# Altium footprint library Footprint-Lib-Pytenax.PcbLib: 7 footprints
Each footprint in its own frame and in the unit in brackets; x right, y up, seen from the top. Pads: shape width x height; smd on the part's side, far side on the other; paste and mask are expansions set on the pad; w line width, h text height; cw(c..) or ccw(c..) is an arc to the next point about the centre after c.
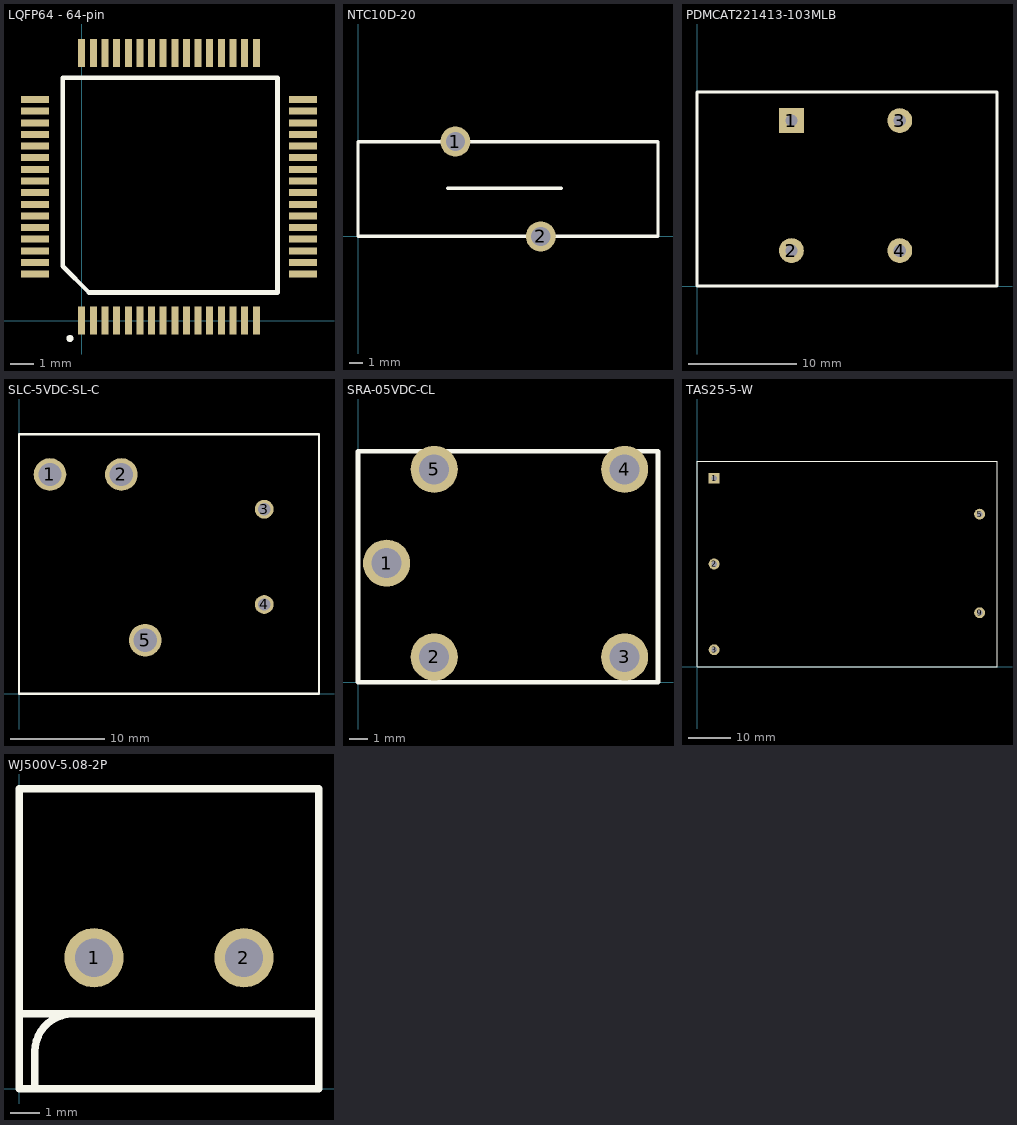
[diagram p0: the footprints below, top view; thin cyan lines are the x and y axes]

## LQFP64 - 64-pin [mm] "LQFP64 - 64-pin"
pads (64):
  rect 0.3x1.2 smd: 1(0,0) 2(0.5,0) 3(1,0) 4(1.5,0) 5(2,0) 6(2.5,0) 7(3,0) 8(3.5,0) 9(4,0) 10(4.5,0) 11(5,0) 12(5.5,0) 13(6,0) 14(6.5,0) 15(7,0) 16(7.5,0) 33(7.5,11.5) 34(7,11.5) 35(6.5,11.5) 36(6,11.5) 37(5.5,11.5) 38(5,11.5) 39(4.5,11.5) 40(4,11.5) 41(3.5,11.5) 42(3,11.5) 43(2.5,11.5) 44(2,11.5) 45(1.5,11.5) 46(1,11.5) 47(0.5,11.5) 48(0,11.5)
  rect 1.2x0.3 smd: 17(9.5,2) 18(9.5,2.5) 19(9.5,3) 20(9.5,3.5) 21(9.5,4) 22(9.5,4.5) 23(9.5,5) 24(9.5,5.5) 25(9.5,6) 26(9.5,6.5) 27(9.5,7) 28(9.5,7.5) 29(9.5,8) 30(9.5,8.5) 31(9.5,9) 32(9.5,9.5) 49(-2,9.5) 50(-2,9) 51(-2,8.5) 52(-2,8) 53(-2,7.5) 54(-2,7) 55(-2,6.5) 56(-2,6) 57(-2,5.5) 58(-2,5) 59(-2,4.5) 60(-2,4) 61(-2,3.5) 62(-2,3) 63(-2,2.5) 64(-2,2)
Top Overlay:
  circle w0.254: c-0.508,-0.762 r0.025
  lines w0.2: -0.821,2.345 -0.821,10.44 8.408,10.44 8.408,1.211 0.313,1.211 -0.821,2.345
3D body "User Library-lqpf64.STEP": height 1.5, standoff 0.02, extent -2.317,-0.285 9.683,11.715

## NTC10D-20 [mil] "NTC10D-20"
pads (2):
  round 87 hole 55: 1(282.36,275)
  round 87 hole 56: 2(530,0)
Top Overlay:
  lines w10: 260,140 590,140 ; 0,0 870,0 870,275 0,275 0,0
3D body "820422711.stp": height 452.76, standoff -1437.01, extent -32.72,41.02 872.72,248.98

## PDMCAT221413-103MLB [mil] "PDMCAT221413-103MLB"
pads (4):
  rect 90x90 hole 45: 1(343.15,601.22)
  round 90 hole 45: 2(343.15,128.78) 3(736.85,601.22) 4(736.85,128.78)
Top Overlay:
  lines w10: 0,0 1090,0 1090,705 0,705 0,0
3D body "744823210.stp": height 937.01, standoff -224.41, extent 129.96,30.35 1000.04,699.65

## SLC-5VDC-SL-C [mil] "5V 30A SPDT (1 Form C) 5 Plugin,27.6x32.2mm Power Relays ROHS"
pads (5):
  round 137 hole 98 paste+0 mask+19.68: 1(130,921)
  round 137 hole 98 mask+19.68: 2(430,921)
  round 78.75 hole 52 mask+7.87: 3(1030,775) 4(1030,375)
  round 137 hole 98 paste-99999 mask+19.68: 5(530,225)
Top Overlay:
  lines w10: 0,0 1260,0 1260,1090 0,1090 0,0
3D body: height 1102.36, standoff 47.24, extent 0,5 1260,1095

## SRA-05VDC-CL [mil] "5V 10A 20A@14VAC SPDT (1 Form C) 5 Plugin,12.4x16mm Power Relays ROHS"
pads (5):
  round 99 hole 63 mask+4: 1(60,250) 2(160,53) 3(560,53) 4(560,447) 5(160,447)
Top Overlay:
  lines w10: 0,0 630,0 630,485 0,485 0,0
3D body: height 559.06, standoff 0, extent 0,0 625,475

## TAS25-5-W [mil] "TAS25-5-W"
pads (5):
  rect 100x100 hole 52: 1(157.52,1732.4)
  round 100 hole 52: 2(157.52,945) 3(157.52,157.6) 5(2596.36,1402.76) 9(2596.36,497.25)
Top Overlay:
  lines w10: 0,0 0,1890 2755.9,1890 2755.9,0 0,0
  text ".Designator" at 15,1933.73 h60
3D body: height 1181.1, standoff 40.16, extent 0,0 2755,1890

## WJ500V-5.08-2P [mil] "1x2P 18A -40?~+105? 250V Green 14~30 Straight 5.08mm 2.5 1 2 Plugin,P=5.08mm Screw terminal ROHS"
pads (2):
  round 78.75 hole 51: 1(100,175) 2(300,175)
Top Overlay:
  lines w10: 25.97,0 cw(c25.97,4.68) 21.29,4.68 21.29,50 cw(c71.29,50) 71.29,100 101.5,100 ; 0,0 400,0 ; 0,0 0,100 400,100 400,0 ; 0,0 400,0 ; 0,0 0,400 400,400 400,0
3D body "1935776.stp": height 993.8, standoff 300.89, extent 3.15,0.67 396.85,355